# Altium footprint library WCAP-FTBE.PcbLib: 17 footprints (part 2 of 2)
Each footprint in its own frame and in the unit in brackets; x right, y up, seen from the top. Pads: shape width x height; smd on the part's side, far side on the other; paste and mask are expansions set on the pad; w line width, h text height; cw(c..) or ccw(c..) is an arc to the next point about the centre after c.
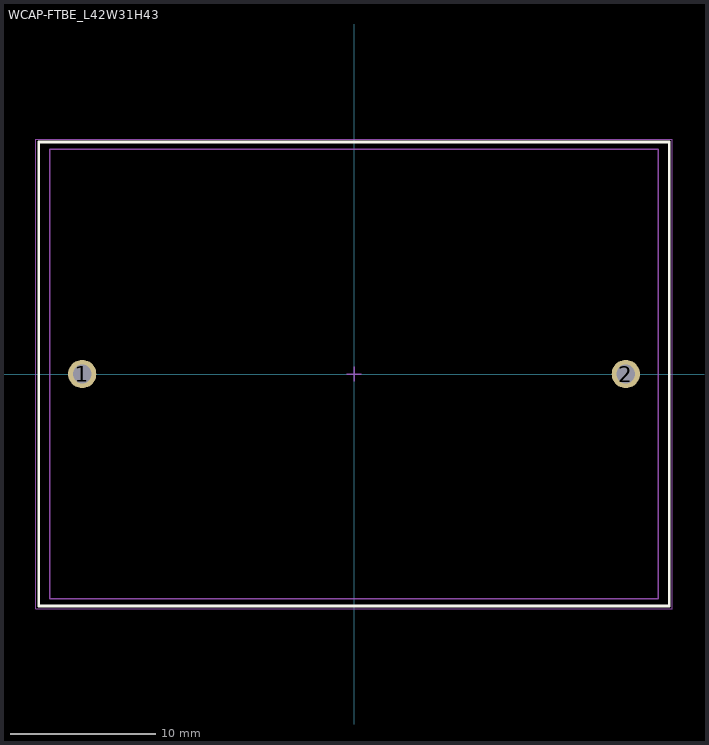
[diagram p1: the footprint, top view; thin cyan lines are the x and y axes]

## WCAP-FTBE_L42W31H43 [mm] "THT Film Capacitors, body 42x31mm"
height 43
pads (2):
  round 1.95 hole 1.3: 1(-18.75,0) 2(18.75,0)
Top Overlay:
  lines w0.2: -21.75,-16 21.75,-16 21.75,16 -21.75,16 -21.75,-16
V Cut:
  lines w0.1: -21.75,-16 21.75,-16 21.75,16 -21.75,16 -21.75,-16
Top Designator:
  text ".Designator" at -3.647,-0.357 h1
Top 3D Body:
  lines w0.1: -21,-15.5 21,-15.5 21,15.5 -21,15.5 -21,-15.5
Top Courtyard:
  lines w0.05: -21.95,-16.2 21.95,-16.2 21.95,16.2 -21.95,16.2 -21.95,-16.2
Top Component Center:
  lines w0.1: -0.5,0 0.5,0 ; 0,-0.5 0,0.5
3D body "37,5x42x31x43.stp": height 43.05, standoff -3.95, extent -21,-15.5 21,15.5